# Altium schematic symbol library LoraSMS.SCHLIB: 46 symbols
Pins are listed as number, name and electrical type; pins without a type are passive.

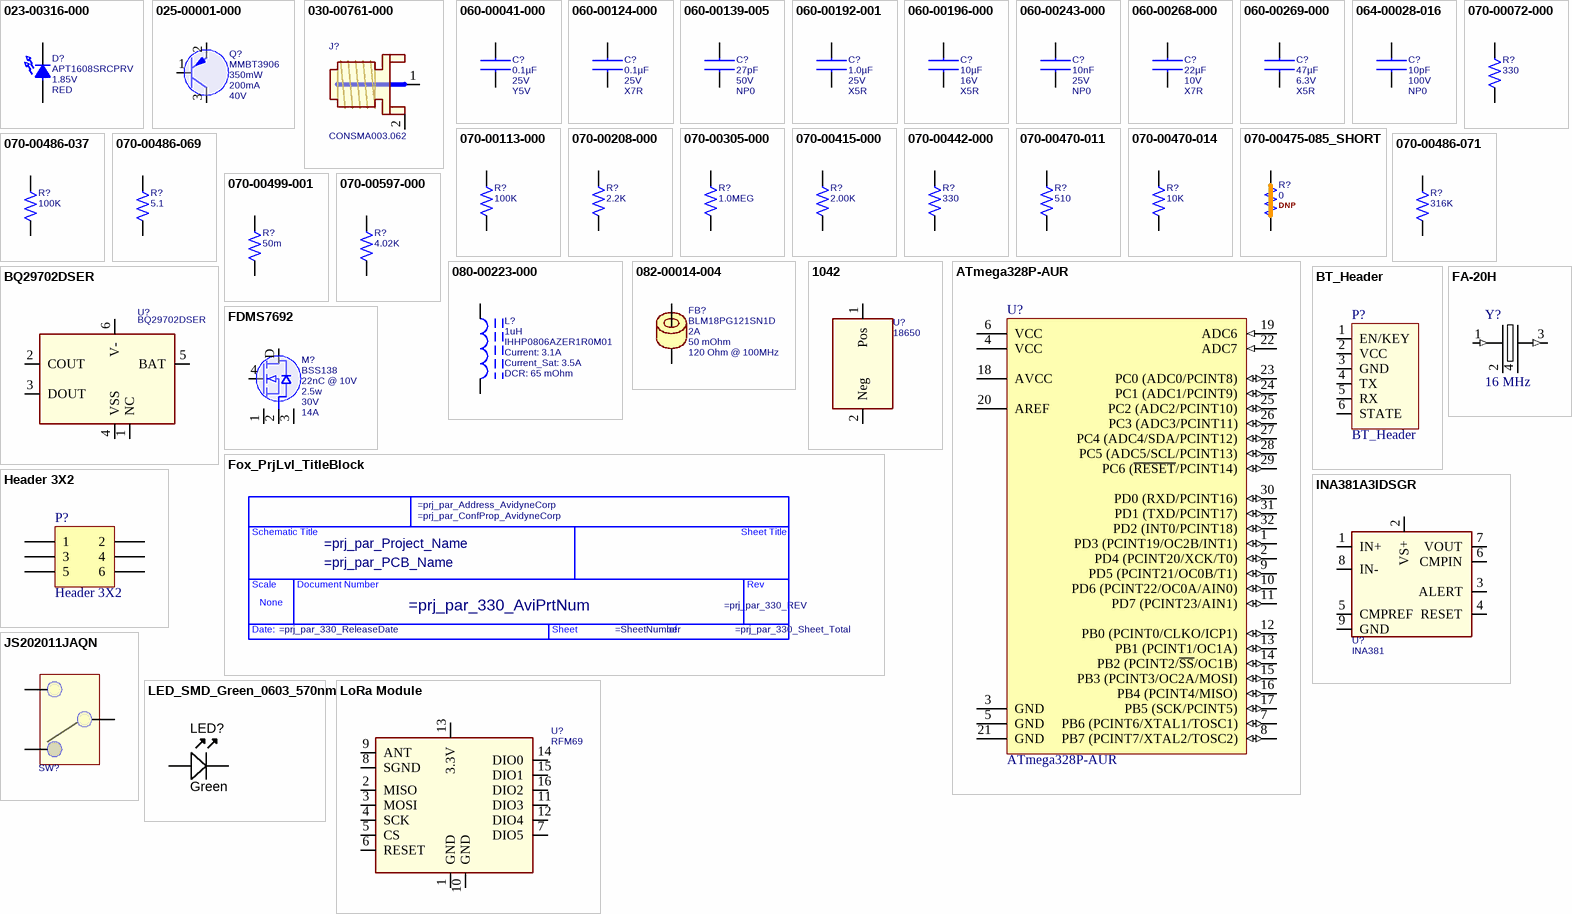
[diagram p0: symbols 023-00316-000 to LoRa Module]

## 023-00316-000
designator D?, comment APT1608SRCPRV  Vf: 1.85V  LED_COLOR: RED
DIODE, LED, RED, SMT, 2.5V, 0603; Manufacturer: Kingbright; Candela: 100mcd; Wattage: 75mW; Wavelength: 640nm; Current: 20mA; Manufacturer P/N: APT1608SRCPRV; Package: D0603; Value: APT1608SRCPRV; Type: LED; Voltage: 2.5V; Cost: 0.04
footprint LEDM1608X90N
pins: A ANODE, C CATHODE

## 025-00001-000
designator Q?, comment MMBT3906  Wattage: 350mW  Current: 200mA  Voltage: 40V
TRANS,BJT,PNP,3906,SOT-23; Manufacturer: Fairchild Semiconductor; Gain: 100 @ 10mA; Package: SOT-23; Value: MMBT3906; Manufacturer P/N: MMBT3906; Type: PNP; Cost: 0.012
simulation model Q2N3906
footprint SOT95P240X115-3N
pins: 1 B, 2 E, 3 C

## 030-00761-000
designator J?, comment CONSMA003.062
CONN, SMA JACK, FEMALE, EDGE; Manufacturer: LINX; Manufacturer P/N: CONSMA003.062; Value: CONSMA003.062; Package: SMA; Cost: 3.37
footprint LINX_CONSMA003.062 (CONN SMA JACK 50 OHM EDGE MNT)
pins: 1 CENTER, 2 SHIELD

## 060-00041-000
designator C?, comment 0.1µF  VOLTAGE: 25V  DIELECTRIC: Y5V
CAP, CER, SMT, 25V, +80/-20%,Y5V,0603,.1uf; Manufacturer: Kemet Corporation; Manufacturer P/N: C0603C104M3VAC; TOLERANCE: 20%; Value (nF): 100; Value (pF): 100000; Value (µF): 0.1; Package: C0603; Value: 0.1µF
footprint CAPC1608X95N (Chip Capacitor, Body 1.6x0.8mm, IPC Medium Density (0603))
pins: 1, 2

## 060-00124-000
designator C?, comment 0.1µF  VOLTAGE: 25V  DIELECTRIC: X7R
CAP, CER, SMT, 25V, +/- 10%, X7R, 0603; Manufacturer: Kemet Corporation; Manufacturer P/N: C0603C104K3RAC; Value (nF): 100; Value (pF): 100000; Value (µF): 0.1; Package: C0603; TOLERANCE: 10%; Value: 0.1µF; Cost: 0.0043
footprint CAPC1608X95N (Chip Capacitor, Body 1.6x0.8mm, IPC Medium Density (0603))
pins: 1, 2

## 060-00139-005
designator C?, comment 27pF  VOLTAGE: 50V  DIELECTRIC: NP0
CAP, CER, 10%, 50V, 27PF, CAP0603; Manufacturer: Kemet Corporation; Manufacturer P/N: C0603C270K5GAC; Value (nF): 0.027; Value (pF): 27; Value (µF): 0.000027; Package: C0603; TOLERANCE: 10%; Value: 27pF; Cost: 0.01
footprint CAPC1608X95N (Chip Capacitor, Body 1.6x0.8mm, IPC Medium Density (0603))
pins: 1, 2

## 060-00192-001
designator C?, comment 1.0µF  VOLTAGE: 25V  DIELECTRIC: X5R
CAP, CER, SMT, 1.0UF, 25V, 10%, X5R, 0603; Manufacturer: Kemet Corporation; Manufacturer P/N: C0603C105K3PAC; Value (nF): 1000; Value (pF): 1000000; Value (µF): 1; Package: C0603; TOLERANCE: 10%; Value: 1.0µF; Cost: 0.0145
footprint CAPC1608X95N (Chip Capacitor, Body 1.6x0.8mm, IPC Medium Density (0603))
pins: 1, 2

## 060-00196-000
designator C?, comment 10µF  VOLTAGE: 16V  DIELECTRIC: X5R
CAP, CER, 10UF, 16V, X5R, 0805; Manufacturer: Murata Manufacturing Co., Ltd.; Manufacturer P/N: GRM21BR61C106KE15L; TOLERANCE: 10%; Value (nF): 10000; Value (pF): 10000000; Value (µF): 10; Package: C0805; Value: 10µF; Cost: 0.0373
footprint CAPC2013X140N (Chip Capacitor, 2-Leads, Body 2.0x1.3mm, IPC Medium Density)
pins: 1, 2

## 060-00243-000
designator C?, comment 10nF  VOLTAGE: 25V  DIELECTRIC: NP0
CAP, CER, 5%, 25V, C0G, 0603, 10,000PF; Manufacturer: TDK Corporation; Manufacturer P/N: C1608C0G1E103JT; Value (nF): 10; Value (pF): 10000; Value (µF): 0.01; Package: C0603; TOLERANCE: 5%; Value: 10nF; Cost: 0.2528
footprint CAPC1608X95N (Chip Capacitor, Body 1.6x0.8mm, IPC Medium Density (0603))
pins: 1, 2

## 060-00268-000
designator C?, comment 22µF  VOLTAGE: 10V  DIELECTRIC: X7R
CAP, CER, 0805, 20%, 10V, X7R, 22UF; Manufacturer: Taiyo Yuden USA, Inc.; Manufacturer P/N: LMK212BJ226MG-T; Value (nF): 22000; Value (pF): 22000000; Value (µF): 22; Package: C0805; TOLERANCE: 20%; Value: 22µF; Cost: 0.134
footprint CAPC2013X140N (Chip Capacitor, 2-Leads, Body 2.0x1.3mm, IPC Medium Density)
pins: 1, 2

## 060-00269-000
designator C?, comment 47µF  VOLTAGE: 6.3V  DIELECTRIC: X5R
CAP, CER, 0805, 20%, 6.3V, X5R, 47UF; Manufacturer: Kemet Corporation; Manufacturer P/N: C0805C476M9PACTU; Value (nF): 47000; Value (pF): 47000000; Value (µF): 47; Package: C0805; TOLERANCE: 20%; Value: 47µF; Cost: 0.164
footprint CAPC2013X140N (Chip Capacitor, 2-Leads, Body 2.0x1.3mm, IPC Medium Density)
pins: 1, 2

## 064-00028-016
designator C?, comment 10pF  VOLTAGE: 100V  DIELECTRIC: NP0
CAP RF, HIQ, NPO, +/-1%, 10GHZ, 200, 100V, 0603, 10PF, ROHS; Manufacturer: Vishay; Manufacturer P/N: VJ0603D100FXBA; TOLERANCE: 1%; Value (nF): 0.01; Value (pF): 10; Value (µF): 0.00001; Value: 10pF; Package: C0603; Cost: 0.18353
footprint CAPC1608X95N (Chip Capacitor, Body 1.6x0.8mm, IPC Medium Density (0603))
pins: 1, 2

## 070-00072-000
designator R?, comment 330
RES, 1/8W, 5%, 0805, 330 OHM; Manufacturer: KOA-Speer Electronics, Inc.; Manufacturer P/N: RM73B2AT331J; TOLERANCE: 5%; Value: 330; Wattage: 1/8W; Package: R0805; Cost: 0.0019
simulation model R
footprint RESC2013X84N (Chip Resistor, 2-Leads, Body 2.0x1.3mm, IPC Medium Density)
pins: 1, 2

## 070-00113-000
designator R?, comment 100K
RES,1/10W,1%,0603,100K OHM; Manufacturer: Panasonic Electronic Devices, Corp.; Manufacturer P/N: ERJ-3EKF1003V; TOLERANCE: 1%; Value: 100K; Wattage: 1/10W; Package: R0603; Cost: 0.002
simulation model R
footprint RESC1608X84N
pins: 1, 2

## 070-00208-000
designator R?, comment 2.2K
RES, 1/10W, 5%, 0603, 2.2K OHM; Manufacturer: KOA-Speer Electronics, Inc.; Manufacturer P/N: RM73B1JT222J; TOLERANCE: 5%; Value: 2.2K; Wattage: 1/10W; Package: R0603; Cost: 0.0012
simulation model R
footprint RESC1608X84N
pins: 1, 2

## 070-00305-000
designator R?, comment 1.0MEG
RES, 1/10W, 5%, 0603, I MEG; Manufacturer: KOA-Speer Electronics, Inc.; Manufacturer P/N: RM73B1JT105J; TOLERANCE: 5%; Value: 1.0MEG; Wattage: 1/10W; Package: R0603
simulation model R
footprint RESC1608X84N
pins: 1, 2

## 070-00415-000
designator R?, comment 2.00K
RES, 1/16W, 1%, 0603, 2.00K OHM; Manufacturer: Panasonic Electronic Devices, Corp.; Manufacturer P/N: ERJ-3EKF2001V; TOLERANCE: 1%; Value: 2.00K; Wattage: 1/16W; Package: R0603; Cost: 0.0032
simulation model R
footprint RESC1608X84N
pins: 1, 2

## 070-00442-000
designator R?, comment 330
RES, 1/16 W, 1%, 0603, 330 OHM; Manufacturer: Panasonic Electronic Devices, Corp.; Manufacturer P/N: ERJ-3ENF3300V; Wattage: 1/10W; TOLERANCE: 1%; Value: 330; Package: R0603
simulation model R
footprint RESC1608X84N
pins: 1, 2

## 070-00470-011
designator R?, comment 510
RES, THICK FILM CHIP, SMT, 1/10W, 5%, 0603, 510 OHM; Manufacturer: Panasonic Electronic Devices, Corp.; Manufacturer P/N: ERJ3GEYJ511V; TOLERANCE: 5%; Value: 510; Wattage: 1/10W; Package: R0603
simulation model R
footprint RESC1608X84N
pins: 1, 2

## 070-00470-014
designator R?, comment 10K
RES, THICK FILM CHIP, SMT, 1/10W, 5%, 0603, 10K OHM; Manufacturer: Vishay-Dale Intertechnology, Inc; Manufacturer P/N: CRCW060310K0JNEA; TOLERANCE: 5%; Value: 10K; Wattage: 1/10W; Package: R0603
simulation model R
footprint RESC1608X84N
pins: 1, 2

## 070-00475-085_SHORT
designator R?, comment 0  Do Not Populate: DNP  (net tie)
RES, THICK FILM CHIP, 1/16W, 1%, RES0402, 0 OHM, ROHS, SHORT-IN-PAD!; Manufacturer: Vishay-Dale Intertechnology, Inc; Manufacturer P/N: CRCW04020000Z0ED; TOLERANCE: 1%; Value: 0; Wattage: 1/16W; Package: R0402; Cost: 0.0012
simulation model R
footprint RESC1005X40N_SHORT (Chip Resistor, Body 1.0x0.5mm, IPC Medium Density)
pins: 1, 2

## 070-00486-037
designator R?, comment 100K
RES, THICK FILM CHIP, SMT, 1/10W, 1%, 0603, 100K OHM; Manufacturer: Panasonic Electronic Devices, Corp.; Manufacturer P/N: ERJ3EKF1003V; TOLERANCE: 1%; Value: 100K; Wattage: 1/10W; Package: R0603; Cost: 0.0016
simulation model R
footprint RESC1608X84N
pins: 1, 2

## 070-00486-069
designator R?, comment 5.1
RES, THICK FILM CHIP, SMT, 1/10W, 1%, 0603, 5.1 OHM; Manufacturer: Panasonic Electronic Devices, Corp.; Manufacturer P/N: ERJ-3EKF5R1V; TOLERANCE: 1%; Value: 5.1; Wattage: 1/10W; Package: R0603
simulation model R
footprint RESC1608X84N
pins: 1, 2

## 070-00486-071
designator R?, comment 316K
RES, THICK FILM CHIP, SMT, 1/10W, 1%, 0603, 316K OHM; Manufacturer: Panasonic Electronic Devices, Corp.; Manufacturer P/N: ERJ3EKF3163V; TOLERANCE: 1%; Value: 316K; Wattage: 1/10W; Package: R0603; Cost: 0.0016
simulation model R
footprint RESC1608X84N
pins: 1, 2

## 070-00499-001
designator R?, comment 50m
RES, THICK FILM, CURRENT SENSE, 1/2 W, 1%, RES1206, 0.05 OHMS; Manufacturer: TT Electronics, PLC; Manufacturer P/N: LRC-LR1206LF-01-R050-F; Wattage: 1/2W; TOLERANCE: 1%; Value: 50m; Package: R1206; Cost: 0.155
simulation model R
footprint RESC3216X84N (Chip Resistor, 2-Leads, Body 3.2x1.6mm, IPC Medium Density)
pins: 1, 2

## 070-00597-000
designator R?, comment 4.02K
RES, METAL FILM, 1/16W, .5%, 0603, SMD, 4.02K; Manufacturer: Susumu; Manufacturer P/N: RR0816P-4021-D-59H; TOLERANCE: 1%; Value: 4.02K; Wattage: 1/16W; Package: R0603; Cost: 0.01178
simulation model R
footprint RESC1608X84N
pins: 1, 2

## 080-00223-000
designator L?, comment 1uH  Manufacturer P/N: IHHP0806AZER1R0M01  Current: 3.1A  Current_Sat: 3.5A  DCR: 65 mOhm
INDUCTOR POWER 1UH 1.5A SMD; Manufacturer: Vishay Dale; TOLERANCE: 20%; Value: 1uH; Package: 0.079" L x 0.063" W; Cost: 0.13
footprint INDC2016X10N (Chip Inductor, 2-Leads, Body 2.00x1.60mm, IPC Medium Density)
pins: 1, 2

## 082-00014-004
designator FB?, comment BLM18PG121SN1D  Current: 2A  DCR: 50 mOhm  Impedance: 120 Ohm @ 100MHz
FERRITE,100MHZ,0603,25%,120OHM ROHS; Manufacturer: Murata; Manufacturer P/N: BLM18PG121SN1D; Value: BLM18PG121SN1D; Package: L0603; Cost: 0.0172
footprint INDC1608X95N
simulation model FB
pins: 1, 2

## 1042
designator U?, comment 18650
HOLDER BATTERY 1CELL 18650 SMD; Manufacturer: Keystone Electronics; Manufacturer P/N: 1042; Value: 18650; Cost: 2.47
footprint 18650 (HOLDER BATTERY 1CELL 18650 SMD)
pins: 1 Pos, 2 Neg

## ATmega328P-AUR
designator U?
8-bit AVR Microcontroller, 32KB Flash, 1KB EEPROM, 2KB SRAM, 32-pin TQFP, Industrial Grade (-40°C to 85°C); Manufacturer: Microchip Technology; Manufacturer P/N: ATMEGA328PB-AU; Published: 1-Apr-2010; DatasheetVersion: revA, Jan-2010; PackageVersion: revB, Oct-2001; PackageReference: 32A; Publisher: Altium Limited; PackageDescription: 32-Lead, 7x7x1.0 mm Body, 0.8mm Lead Pitch, Thin Profile Plastic Quad Flat Package (TQFP); Supplier 1: Digi-Key; Supplier Part Number 1: ATMEGA328P-AUR-ND; Supplier 2: Mouser; Supplier Part Number 2: 556-ATMEGA328P-AUR; Code_JEDEC: MS-026-ABA; ComponentLink1Description: Manufacturer Link; ComponentLink1URL: http://www.atmel.com/products/avr/default.asp?; ComponentLink2Description: ATmega48A/48PA/88A/88PA/168A/168PA/328/328P Datasheet; ComponentLink2URL: http://www.atmel.com/dyn/resources/prod_documents/8271.pdf; ComponentLink3Description: ATmega48A/48PA/88A/88PA/168A/168PA/328/328P Summary; ComponentLink3URL: http://www.atmel.com/dyn/resources/prod_documents/8271S.pdf; ComponentLink4Description: Atmel.com Home; ComponentLink4URL: http://www.atmel.com
footprint 32A_N (Thin QFP, 32-Leads, Body 7x7mm, Pitch 0.8mm, IPC Medium Density)
footprint 32A_L (Thin QFP, 32-Leads, Body 7x7mm, Pitch 0.8mm, IPC High Density)
footprint 32A_M (Thin QFP, 32-Leads, Body 7x7mm, Pitch 0.8mm, IPC Low Density)
pins: 1 PD3 (PCINT19/OC2B/INT1) (io), 2 PD4 (PCINT20/XCK/T0) (io), 3 GND (power), 4 VCC (power), 5 GND (power), 6 VCC (power), 7 PB6 (PCINT6/XTAL1/TOSC1) (io), 8 PB7 (PCINT7/XTAL2/TOSC2) (io), 9 PD5 (PCINT21/OC0B/T1) (io), 10 PD6 (PCINT22/OC0A/AIN0) (io), 11 PD7 (PCINT23/AIN1) (io), 12 PB0 (PCINT0/CLKO/ICP1) (io), 13 PB1 (PCINT1/OC1A) (io), 14 PB2 (PCINT2/~{SS}/OC1B) (io), 15 PB3 (PCINT3/OC2A/MOSI) (io), 16 PB4 (PCINT4/MISO) (io), 17 PB5 (SCK/PCINT5) (io), 18 AVCC (power), 19 ADC6 (in), 20 AREF, 21 GND (power), 22 ADC7 (in), 23 PC0 (ADC0/PCINT8) (io), 24 PC1 (ADC1/PCINT9) (io), 25 PC2 (ADC2/PCINT10) (io), 26 PC3 (ADC3/PCINT11) (io), 27 PC4 (ADC4/SDA/PCINT12) (io), 28 PC5 (ADC5/SCL/PCINT13) (io), 29 PC6 (~{RESET}/PCINT14) (io), 30 PD0 (RXD/PCINT16) (io), 31 PD1 (TXD/PCINT17) (io), 32 PD2 (INT0/PCINT18) (io)

## BQ29702DSER
designator U?
IC LITHIUM BATT PROTECT 6-SON; Manufacturer: Texas instruments; Manufacturer P/N: BQ29702DSER; Value: BQ29702DSER; Cost: 0.69
footprint SOTFL50P162X60-6N (SC89)
pins: 1 NC, 2 COUT, 3 DOUT, 4 VSS, 5 BAT (power), 6 V-

## BT_Header
designator P?
HC-05 BLUETOOTH MODULE
footprint BT_MODULE
pins: 1 EN/KEY, 2 VCC, 3 GND, 4 TX, 5 RX, 6 STATE

## FA-20H
designator Y?, comment 16 MHz
CRYSTAL 16.0000MHZ 8PF SMD; Manufacture PN: FA-20H 16.0000MF10Z-AJ0; Manufacture: EPSON; Voltage: 2.7V - 3.6V; Frequency Stability: 10 ppm; Value: 16 MHz; Frequency: 16 MHz; Cost: 0.69; Package: 0.098" L x 0.079" W (2.50mm x 2.00mm)
footprint Crystal_2.5x2.0
pins: 1 (in), 2 GND, 3 (out), 4 GND

## FDMS7692
designator M?, comment BSS138  Qg: 22nC @ 10V  Wattage: 2.5w  Vdss: 30V  Id: 14A
MOSFET N-CH 30V 14A POWER56; Manufacturer: ON Semiconductor; Manufacturer P/N: FDMS7692; Rds(on): 7.5 Ohm; Vgs(th): 3V @ 250UA; Value: BSS138; Type: NMOS; Cost: 0.62
footprint VISHAY_POWERPAK-SO-8-SINGLE (MOSFET, N-CHANNEL, POWERPAK SO-8 SINGLE)
pins: 1 SOURCE, 2 SOURCE, 3 SOURCE, 4 GATE, D DRAIN

## Fox_PrjLvl_TitleBlock
designator *??  (graphical)
Page Create Date: May 8, 2017; R_E_V: =prj_par_330_REV; P_C_B_Name: =prj_par_PCB_Name; Proj_Name: =prj_par_Project_Name; Page Count: =prj_par_330_Sheet_Total; Page Number: =SheetNumber; Doc: =prj_par_330_AviPrtNum
text: Schematic Title; Sheet Title; Scale; Document Number; Rev; None; Date:; Sheet; of

## Header 3X2
designator P?
Header, 3-Pin, Dual row; LatestRevisionDate: 17-Jul-2002; LatestRevisionNote: Re-released for DXP Platform.; Publisher: Altium Limited
footprint HDR2X3 (Connector; Header; 3x2 Position)
signal-integrity model Connector
pins: 1, 2, 3, 4, 5, 6

## INA381A3IDSGR
designator U?, comment INA381
LOW COST CURRENT SENSOR WITH COM; Manufacturer P/N: INA381A3IDSGR; Manufacturer: TI; Voltage-Input: 0V ~ 6V; Package: 8-WFDFN Exposed Pad; Value: INA381; Cost: .75
footprint SON45P200X200X80-9N (SMALL OUTLINE NO LEAD, 8-Leads, Body 2.1x2.1mm (max), Pitch 0.45mm, IPC Medium Density)
pins: 1 IN+, 2 VS+, 3 ALERT, 4 RESET, 5 CMPREF, 6 CMPIN, 7 VOUT, 8 IN-, 9 GND

## JS202011JAQN
designator SW?, comment SWITCH  (value not drawn)
SWITCH SLIDE DPDT 300MA 6V; Manufacturer: JS202011JAQN; Manufacturer P/N: C&K; Cost: 0.51
footprint JS202011JAQN
pins: 1, 2, 3

## LED_SMD_Green_0603_570nm
designator LED?, comment Green
LED 0603 SMD Green 570nm 50mcd 20mA; Manufacturer 1: Kingbright Company LLC; Manufacturer Part Number 1: APT1608CGCK; Manufacturer: Wurth Electronics; Manufacturer P/N: 150060VS75000; Material: AlGaInP; Ratings: 20mcd min; 50 mcd typ; 570 nm; Voltage - Forward (Vf) Typ: 2.1V; Viewing Angle: 120°; Lens Style/Size: Rectangle with Flat Top, 1.1mm x 0.8mm; Voltage - Forward (Vf) @ 10mA: 2.0V; SCDType: source; Wavelength - Peak: 574nm; Lens Type: Clear; Package / Case: 0603 (1608 metric); Color: Green; Current - Test: 20mA; Supplier 1: Digi-Key; Supplier Part Number 1: 754-1116-1-ND; RoHS 1: RoHS Compliant; Wavelength - Dominant: 570nm; ComponentLink1URL: http://www.us.kingbright.com/images/catalog/SPEC/APT1608CGCK.pdf; ComponentLink1Description: http://www.us.kingbright.com/images/catalog/SPEC/APT1608CGCK.pdf
footprint LED-0603-GREEN
pins: A, K

## LoRa Module
designator U?, comment RFM69
RFM69HCW WIRELESS TRANSCEIVER 91; Manufacturer P/N: COM-13909; Manufacturer: SparkFun; Current: 130mA; Voltage-Input: 1.8V ~ 3.6V; Package: Module; Value: RFM69; Cost: 5.95
footprint RFM69HCW
pins: 1 GND, 2 MISO, 3 MOSI, 4 SCK, 5 CS, 6 RESET, 7 DIO5, 8 SGND, 9 ANT, 10 GND, 11 DIO3, 12 DIO4, 13 3.3V, 14 DIO0, 15 DIO1, 16 DIO2

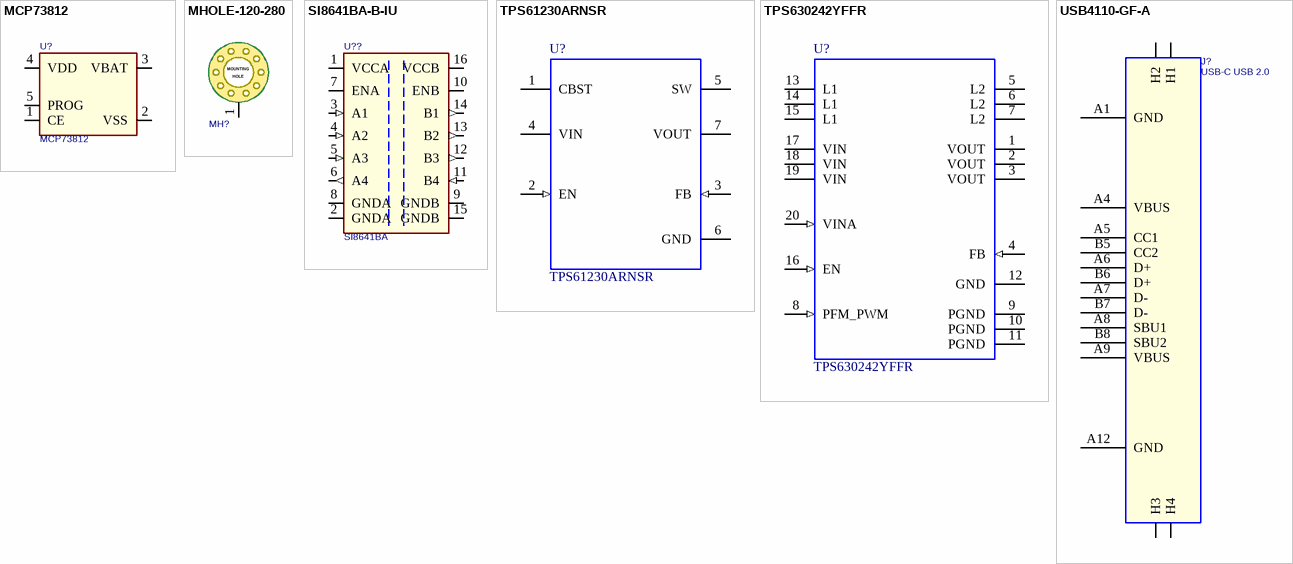
[diagram p1: symbols MCP73812 to USB4110-GF-A]

## MCP73812
designator U?
IC LI-ION/LI-POLY CTRLR SOT23-5; Manufacturer P/N: MCP73812T-420I/OT; Manufacturer: Microchip Technology; Current: 500mA; Voltage-Input: 3.75V ~ 6V; Package: SC-74A, SOT-753; Value: MCP73812; Cost: 0.56
footprint SOT95P280X145-5N (SOT23, 5-Leads, Body 3.0x3.0mm (max), Pitch 0.95mm, IPC Medium Density)
pins: 1 CE, 2 VSS, 3 VBAT, 4 VDD, 5 PROG

## MHOLE-120-280
designator MH?, comment MOUNTING HOLE  (value not drawn)
Value: MOUNTING HOLE
footprint MHOLE-120-280 (Footprint not found)
pins: 1
text: MOUNTING; HOLE

## SI8641BA-B-IU
designator U??, comment SI8641BA
DGTL ISO 3KV GEN PRP 8SOIC; Manufacturer: Silicon Labs; Manufacturer P/N: SI8641BA-B-IU; Voltage-Input: 2.25 V ~ 5.5 V; Value: SI8641BA; Cost: 1.64; Package: 16-SSOP (0.154", 3.90mm Width)
pins: 1 VCCA, 2 GNDA, 3 A1 (in), 4 A2 (in), 5 A3 (in), 6 A4 (out), 7 ENA, 8 GNDA, 9 GNDB, 10 ENB, 11 B4 (in), 12 B3 (out), 13 B2 (out), 14 B1 (out), 15 GNDB, 16 VCCB

## TPS61230ARNSR
designator U?, comment N/A  (value not drawn)
TPS61230ARNSR; Manufacturer Name: Texas Instruments; Manufacturer: TI; Value: N/A; Manufacturer Part Number: TPS61230ARNSR; PackageReference: TPS61230ARNSR; Manufacturer P/N: TPS61230ARNSR
footprint RNS0007A
pins: 1 CBST (power), 2 EN (in), 3 FB (in), 4 VIN (power), 5 SW (power), 6 GND (power), 7 VOUT (power)

## TPS630242YFFR
designator U?
Manufacturer Name: Texas Instruments; Manufacturer: TI; PackageReference: TPS630242YFFR; Manufacturer Part Number: TPS630242YFFR; Value: N/A; Manufacturer P/N: TPS630242YFFR
footprint YFF0020AEBA
pins: 1 VOUT (power), 2 VOUT (power), 3 VOUT (power), 4 FB (in), 5 L2, 6 L2, 7 L2, 8 PFM_PWM (in), 9 PGND (power), 10 PGND (power), 11 PGND (power), 12 GND (power), 13 L1, 14 L1, 15 L1, 16 EN (in), 17 VIN (power), 18 VIN (power), 19 VIN (power), 20 VINA (in)

## USB4110-GF-A
designator J?, comment USB-C USB 2.0
CONN USB 2.0 TYPE-C R/A SMT; Manufacturer: GCT; Manufacturer P/N: USB4110-GF-A; Contacts: 24; Value: USB-C USB 2.0; Cost: 1.37; Pitch: *; Rows: *; Type: Female
footprint GCT_USB4110-GF-A
pins: A1 GND, A4 VBUS, A5 CC1, A6 D+, A7 D-, A8 SBU1, A9 VBUS, A12 GND, B5 CC2, B6 D+, B7 D-, B8 SBU2, H1, H2, H3, H4